# Altium schematic symbol library Capacitors-1210.SchLib: 5 symbols
Pins are listed as number, name and electrical type; pins without a type are passive.

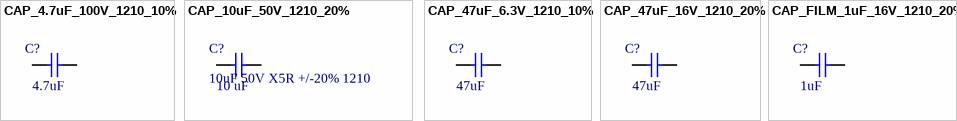
[diagram p0: symbols CAP_4.7uF_100V_1210_10% to CAP_FILM_1uF_16V_1210_20%]

## CAP_4.7uF_100V_1210_10%
designator C?, comment value 4.7uF  (hidden comment: 4.7uF 100V 1210)
4.7uF 100V 10% 1210 (3225 Metric); PartNumber: GRJ32DC72A475KE11L; Manufacturer: Murata; Mounting Technology: Surface Mount; PackageReference: 1210; PackageDescription: 1210 (3225 Metric); Voltage: 100V; Tolerance: 10%
footprint C1210[3225X200] (Chip Capacitor, Body 3.2x2.5mm)
pins: 1, 2

## CAP_10uF_50V_1210_20%
designator C?, comment 10uF 50V X5R +/-20% 1210  value 10 uF
Manufacturer: Taiyo Yuden; PartNumber: UMK325BJ106MM-T; Tolerance: 20%; Voltage: 50V; Mounting Technology: Surface Mount; PackageReference: 1210; PackageDescription: 1210 (3325 Metric)
footprint C1210[3225X150] (Chip Capacitor, Body 3.2x2.5mm)
pins: 1, 2

## CAP_47uF_6.3V_1210_10%
designator C?, comment value 47uF  (hidden comment: 47uF 6.3V 1210)
47uF 6.3V 10% 1210 (3225 Metric); PartNumber: GRM32ER70J476KE20L; Manufacturer: Murata; Mounting Technology: Surface Mount; PackageReference: 1210; PackageDescription: 1210 (3225 Metric); Voltage: 6.3V; Tolerance: 10%
footprint C1210[3225X250] (Chip Capacitor, Body 3.2x2.5mm)
pins: 1, 2

## CAP_47uF_16V_1210_20%
designator C?, comment value 47uF  (hidden comment: 47uF 16V 1210)
47uF 16V 20% 1210 (3225 Metric); PartNumber: GRM32ER61C476ME15L; Manufacturer: Murata; Mounting Technology: Surface Mount; PackageReference: 1210; PackageDescription: 1210 (3225 Metric); Voltage: 16V; Tolerance: 20%
footprint C1210[3225X250] (Chip Capacitor, Body 3.2x2.5mm)
pins: 1, 2

## CAP_FILM_1uF_16V_1210_20%
designator C?, comment value 1uF  (hidden comment: 1uF 16V FILM +/-20% 1210)
Manufacturer: Panasonic; PartNumber: ECP-U1C105MA5; Tolerance: 20%; Voltage: 16V; Mounting Technology: Surface Mount; PackageReference: 1210; PackageDescription: 1210 (3325 Metric)
footprint C1210[3225X150] (Chip Capacitor, Body 3.2x2.5mm)
pins: 1, 2